# Altium integrated library Linear Technology Power Management PMIC Multifunction.IntLib: 360 symbols (part 28 of 42)
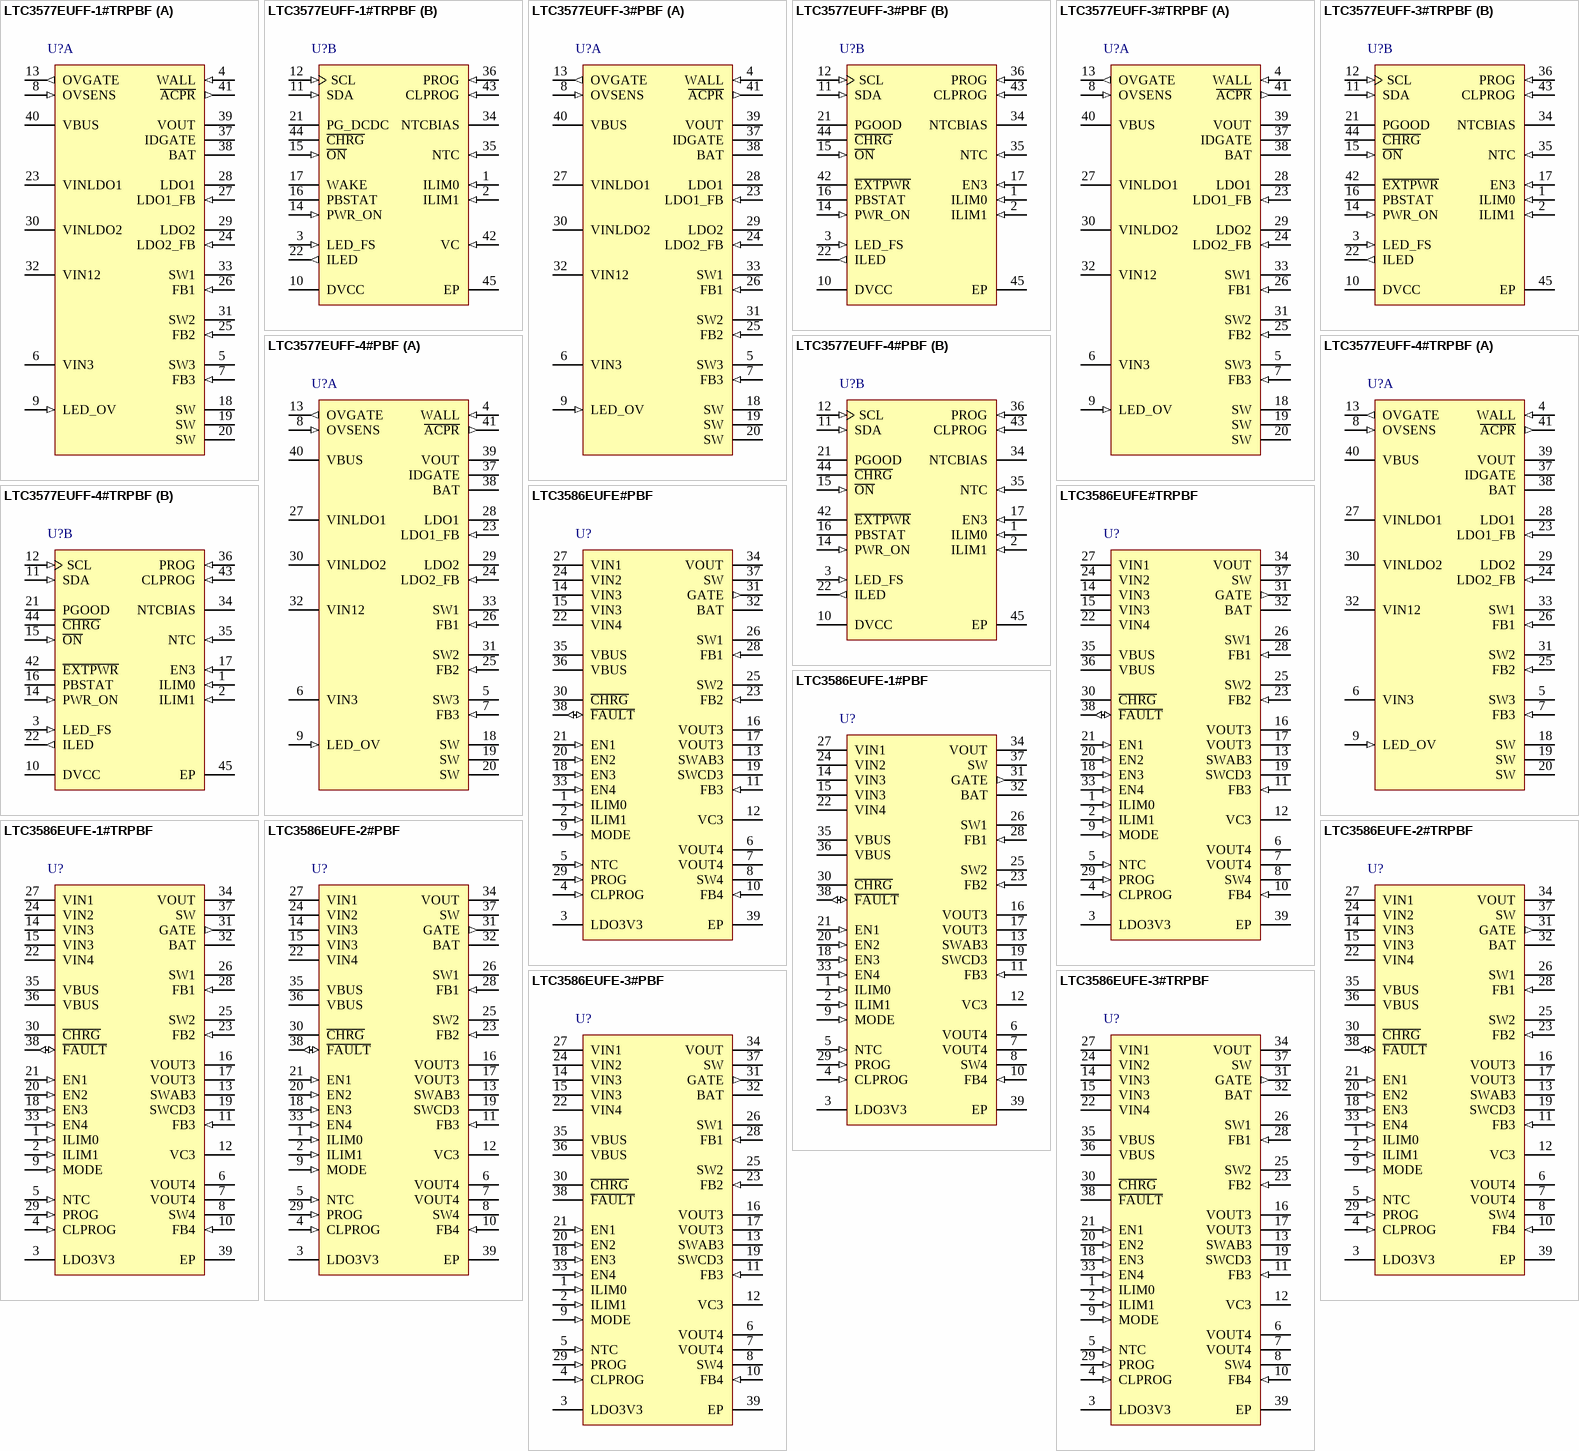
[diagram p45: symbols LTC3577EUFF-1#TRPBF to LTC3586EUFE-3#TRPBF]

## LTC3586EUFE-3#PBF
designator U?
High Efficiency USB Power Manager with Boost, Buck-Boost and Dual Bucks, 4.35 to 5.5 V Vin, 38-pin QFN (UFE-38), -40 to 85 degC, Pb-Free; Manufacturer: Linear Technology; PartNumber: LTC3586EUFE-3#PBF; Number of Cells: 1; Number of Outputs: 4; Vin Max(V): 5.5; Vin Min(V): 4.35; PackageVersion: Rev. B, 03/2012; PackageReference: UFE-38; PackageDescription: 38-Pin Plastic QFN, Body 4 x 6 mm, Pitch 0.4 mm; Supplier 1: Digi-Key; Supplier Part Number 1: LTC3586EUFE-3#PBF-ND; RoHS: TRUE; Mounting Technology: Surface Mount; ComponentLink1Description: Manufacturer URL; ComponentLink1URL: http://www.linear.com/; ComponentLink2Description: Datasheet; ComponentLink2URL: http://cds.linear.com/docs/en/datasheet/358623f.pdf; ComponentLink3Description: Package Specification; ComponentLink3URL: http://cds.linear.com/docs/en/datasheet/358623f.pdf
footprint LT-UFE-38_N (QFN, 38-Leads, Body 6.1x4.1mm, Pitch 0.4mm, Thermal Pad 2.65x4.65mm, IPC Medium Density)
footprint LT-UFE-38_L (QFN, 38-Leads, Body 6.1x4.1mm, Pitch 0.4mm, Thermal Pad 2.65x4.65mm, IPC High Density)
footprint LT-UFE-38_M (QFN, 38-Leads, Body 6.1x4.1mm, Pitch 0.4mm, Thermal Pad 2.65x4.65mm, IPC Low Density)
pins: 1 ILIM0 (in) "Logic Inputs. ILIM0 and ILIM1 control the current limit of the PowerPath switching regulator. See Table 1.", 2 ILIM1 (in) "Logic Inputs. ILIM0 and ILIM1 control the current limit of the PowerPath switching regulator. See Table 1.", 3 LDO3V3 (power) "3.3V LDO Output Pin. This pin provides a regulated always-on 3.3V supply voltage. LDO3V3 gets its power from VOUT. It may be used for light loads such as a watch dog microprocessor or real time clock. A 1uF capacitor is (See Datasheet)", 4 CLPROG (in) "USB Current Limit Program and Monitor Pin. A resistor from CLPROG to ground determines the upper limit of the current drawn from the VBUS pin. A fraction of the VBUS current is sent to the CLPROG pin when the synchronous (See Datasheet)", 5 NTC (in) "Input to the Thermistor Monitoring Circuits. The NTC pin connects to a battery’s thermistor to determine if the battery is too hot or too cold to charge. If the battery’s temperature is out of range, charging is pau(See Datasheet)", 6 VOUT4 (power) "Power Output for the (Boost) Switching Regulator 4. A 10uF MLCC capacitor should be placed as close to the pins as possible.", 7 VOUT4 (power) "Power Output for the (Boost) Switching Regulator 4. A 10uF MLCC capacitor should be placed as close to the pins as possible.", 8 SW4 "Switch Node for the (Boost) Switching Regulator 4. An external inductor connects between this pin and VIN4.", 9 MODE (in) "Digital Input. The MODE pin controls different modes of operation for the switching regulators according to Table 2.", 10 FB4 (in) "Feedback Input for the (Boost) Switching Regulator 4. When the control loop is complete, the voltage on this pin servos to 0.8V.", 11 FB3 (in) "Feedback Input for (Buck-Boost) Switching Regulator 3. When regulator 3’s control loop is complete, this pin servos to 0.8V.", 12 VC3 "Output of the Error Amplifier and Voltage Compensation Node for (Buck-Boost) Switching Regulator 3. External Type I or Type III compensation (to FB3) connects to this pin. See the Applications Information section for (See Datasheet)", 13 SWAB3 "Switch Node for (Buck-Boost) Switching Regulator 3. Connected to Internal Power Switches A and B. An external inductor connects between this node and SWCD3.", 14 VIN3 (power) "Power Input for (Buck-Boost) Switching Regulator 3. These pins will generally be connected to VOUT. A 1uF MLCC capacitor is recommended on these pins.", 15 VIN3 (power) "Power Input for (Buck-Boost) Switching Regulator 3. These pins will generally be connected to VOUT. A 1uF MLCC capacitor is recommended on these pins.", 16 VOUT3 (power) "Output Voltage for (Buck-Boost) Switching Regulator 3.", 17 VOUT3 (power) "Output Voltage for (Buck-Boost) Switching Regulator 3.", 18 EN3 (in) "Digital Input. This input enables the buck-boost switching regulator 3.", 19 SWCD3 "Switch Node for (Buck-Boost) Switching Regulator 3 Connected to Internal Power Switches C and D. An external inductor connects between this node and SWAB3.", 20 EN2 (in) "Digital Input. This input enables the buck switching regulator 2.", 21 EN1 (in) "Digital Input. This input enables the buck switching regulator 1.", 22 VIN4 (power) "Power Input for Switching Regulator 4 (Boost). This pin will generally be connected to VOUT. A 1uF MLCC capacitor is recommended on this pin.", 23 FB2 (in) "Feedback Input for (Buck) Switching Regulator 2. When regulator 2’s control loop is complete, this pin servos to 0.8V.", 24 VIN2 (power) "Power Input for (Buck) Switching Regulator 2. This pin will generally be connected to VOUT. A 1uF MLCC capacitor is recommended on this pin.", 25 SW2 (power) "Power Transmission Pin for (Buck) Switching Regulator 2.", 26 SW1 (power) "Power Transmission Pin for (Buck) Switching Regulator 1.", 27 VIN1 (power) "Power Input for (Buck) Switching Regulator 1. This pin will generally be connected to VOUT. A 1uF MLCC capacitor is recommended on this pin.", 28 FB1 (in) "Feedback Input for (Buck) Switching Regulator 1. When regulator 1’s control loop is complete, this pin servos to 0.8V.", 29 PROG (in) "Charge Current Program and Charge Current Monitor Pin. Connecting a resistor from PROG to ground programs the charge current. If sufficient input power is available in constant-current mode, this pin servos to 1V. The (See Datasheet)", 30 ~{CHRG} (hiz) "Open-Drain Charge Status Output. The C\H\R\G\ pin indicates the status of the battery charger. Four possible states are represented by C\H\R\G\: charging, not charging, unresponsive battery and battery temperature out of (See Datasheet)", 31 GATE (out) "Analog Output. This pin controls the gate of an optional external P-channel MOSFET transistor used to supplement the ideal diode between VOUT and BAT. The external ideal diode operates in parallel with the internal ideal (See Datasheet)", 32 BAT (power) "Single Cell Li-Ion Battery Pin. Depending on available VBUS power, a Li-Ion battery on BAT will either deliver power to VOUT through the ideal diode or be charged from VOUT via the battery charger.", 33 EN4 (in) "Digital Input. This input enables the boost switching regulator 4.", 34 VOUT (power) "Output Voltage of the Switching PowerPath Controller and Input Voltage of the Battery Charger. The majority of the portable product should be powered from VOUT. The LTC3586-2/LTC3586-3 will partition the available power (See Datasheet)", 35 VBUS (power) "Primary Input Power Pin. These pins deliver power to VOUT via the SW pin by drawing controlled current from a DC source such as a USB port or wall adapter.", 36 VBUS (power) "Primary Input Power Pin. These pins deliver power to VOUT via the SW pin by drawing controlled current from a DC source such as a USB port or wall adapter.", 37 SW (power) "Power Transmission Pin for the USB Power Path. The SW pin delivers power from VBUS to VOUT via the buck switching regulator. A 3.3uH inductor should be connected from SW to VOUT.", 38 ~{FAULT} (oc) "Open-Drain Status Output. Used to indicate fault condition in any of the four general purpose voltage regulators", 39 EP (power) "Ground. The exposed pad should be connected to a continuous ground plane on the second layer of the printed circuit board by several vias directly under the LTC3586-2/LTC3586-3."

## LTC3586EUFE-3#TRPBF
designator U?
High Efficiency USB Power Manager with Boost, Buck-Boost and Dual Bucks, 4.35 to 5.5 V Vin, 38-pin QFN (UFE-38), -40 to 85 degC, Pb-Free, Tape and Reel; Manufacturer: Linear Technology; PartNumber: LTC3586EUFE-3#TRPBF; Number of Cells: 1; Number of Outputs: 4; Vin Max(V): 5.5; Vin Min(V): 4.35; PackageVersion: Rev. B, 03/2012; PackageReference: UFE-38; PackageDescription: 38-Pin Plastic QFN, Body 4 x 6 mm, Pitch 0.4 mm; Supplier 1: Digi-Key; Supplier Part Number 1: LTC3586EUFE-3#TRPBF-ND; Packing: Tape and Reel; RoHS: TRUE; Mounting Technology: Surface Mount; ComponentLink1Description: Manufacturer URL; ComponentLink1URL: http://www.linear.com/; ComponentLink2Description: Datasheet; ComponentLink2URL: http://cds.linear.com/docs/en/datasheet/358623f.pdf; ComponentLink3Description: Package Specification; ComponentLink3URL: http://cds.linear.com/docs/en/datasheet/358623f.pdf
footprint LT-UFE-38_N (QFN, 38-Leads, Body 6.1x4.1mm, Pitch 0.4mm, Thermal Pad 2.65x4.65mm, IPC Medium Density)
footprint LT-UFE-38_L (QFN, 38-Leads, Body 6.1x4.1mm, Pitch 0.4mm, Thermal Pad 2.65x4.65mm, IPC High Density)
footprint LT-UFE-38_M (QFN, 38-Leads, Body 6.1x4.1mm, Pitch 0.4mm, Thermal Pad 2.65x4.65mm, IPC Low Density)
pins: 1 ILIM0 (in) "Logic Inputs. ILIM0 and ILIM1 control the current limit of the PowerPath switching regulator. See Table 1.", 2 ILIM1 (in) "Logic Inputs. ILIM0 and ILIM1 control the current limit of the PowerPath switching regulator. See Table 1.", 3 LDO3V3 (power) "3.3V LDO Output Pin. This pin provides a regulated always-on 3.3V supply voltage. LDO3V3 gets its power from VOUT. It may be used for light loads such as a watch dog microprocessor or real time clock. A 1uF capacitor is (See Datasheet)", 4 CLPROG (in) "USB Current Limit Program and Monitor Pin. A resistor from CLPROG to ground determines the upper limit of the current drawn from the VBUS pin. A fraction of the VBUS current is sent to the CLPROG pin when the synchronous (See Datasheet)", 5 NTC (in) "Input to the Thermistor Monitoring Circuits. The NTC pin connects to a battery’s thermistor to determine if the battery is too hot or too cold to charge. If the battery’s temperature is out of range, charging is pau(See Datasheet)", 6 VOUT4 (power) "Power Output for the (Boost) Switching Regulator 4. A 10uF MLCC capacitor should be placed as close to the pins as possible.", 7 VOUT4 (power) "Power Output for the (Boost) Switching Regulator 4. A 10uF MLCC capacitor should be placed as close to the pins as possible.", 8 SW4 "Switch Node for the (Boost) Switching Regulator 4. An external inductor connects between this pin and VIN4.", 9 MODE (in) "Digital Input. The MODE pin controls different modes of operation for the switching regulators according to Table 2.", 10 FB4 (in) "Feedback Input for the (Boost) Switching Regulator 4. When the control loop is complete, the voltage on this pin servos to 0.8V.", 11 FB3 (in) "Feedback Input for (Buck-Boost) Switching Regulator 3. When regulator 3’s control loop is complete, this pin servos to 0.8V.", 12 VC3 "Output of the Error Amplifier and Voltage Compensation Node for (Buck-Boost) Switching Regulator 3. External Type I or Type III compensation (to FB3) connects to this pin. See the Applications Information section for (See Datasheet)", 13 SWAB3 "Switch Node for (Buck-Boost) Switching Regulator 3. Connected to Internal Power Switches A and B. An external inductor connects between this node and SWCD3.", 14 VIN3 (power) "Power Input for (Buck-Boost) Switching Regulator 3. These pins will generally be connected to VOUT. A 1uF MLCC capacitor is recommended on these pins.", 15 VIN3 (power) "Power Input for (Buck-Boost) Switching Regulator 3. These pins will generally be connected to VOUT. A 1uF MLCC capacitor is recommended on these pins.", 16 VOUT3 (power) "Output Voltage for (Buck-Boost) Switching Regulator 3.", 17 VOUT3 (power) "Output Voltage for (Buck-Boost) Switching Regulator 3.", 18 EN3 (in) "Digital Input. This input enables the buck-boost switching regulator 3.", 19 SWCD3 "Switch Node for (Buck-Boost) Switching Regulator 3 Connected to Internal Power Switches C and D. An external inductor connects between this node and SWAB3.", 20 EN2 (in) "Digital Input. This input enables the buck switching regulator 2.", 21 EN1 (in) "Digital Input. This input enables the buck switching regulator 1.", 22 VIN4 (power) "Power Input for Switching Regulator 4 (Boost). This pin will generally be connected to VOUT. A 1uF MLCC capacitor is recommended on this pin.", 23 FB2 (in) "Feedback Input for (Buck) Switching Regulator 2. When regulator 2’s control loop is complete, this pin servos to 0.8V.", 24 VIN2 (power) "Power Input for (Buck) Switching Regulator 2. This pin will generally be connected to VOUT. A 1uF MLCC capacitor is recommended on this pin.", 25 SW2 (power) "Power Transmission Pin for (Buck) Switching Regulator 2.", 26 SW1 (power) "Power Transmission Pin for (Buck) Switching Regulator 1.", 27 VIN1 (power) "Power Input for (Buck) Switching Regulator 1. This pin will generally be connected to VOUT. A 1uF MLCC capacitor is recommended on this pin.", 28 FB1 (in) "Feedback Input for (Buck) Switching Regulator 1. When regulator 1’s control loop is complete, this pin servos to 0.8V.", 29 PROG (in) "Charge Current Program and Charge Current Monitor Pin. Connecting a resistor from PROG to ground programs the charge current. If sufficient input power is available in constant-current mode, this pin servos to 1V. The (See Datasheet)", 30 ~{CHRG} (hiz) "Open-Drain Charge Status Output. The C\H\R\G\ pin indicates the status of the battery charger. Four possible states are represented by C\H\R\G\: charging, not charging, unresponsive battery and battery temperature out of (See Datasheet)", 31 GATE (out) "Analog Output. This pin controls the gate of an optional external P-channel MOSFET transistor used to supplement the ideal diode between VOUT and BAT. The external ideal diode operates in parallel with the internal ideal (See Datasheet)", 32 BAT (power) "Single Cell Li-Ion Battery Pin. Depending on available VBUS power, a Li-Ion battery on BAT will either deliver power to VOUT through the ideal diode or be charged from VOUT via the battery charger.", 33 EN4 (in) "Digital Input. This input enables the boost switching regulator 4.", 34 VOUT (power) "Output Voltage of the Switching PowerPath Controller and Input Voltage of the Battery Charger. The majority of the portable product should be powered from VOUT. The LTC3586-2/LTC3586-3 will partition the available power (See Datasheet)", 35 VBUS (power) "Primary Input Power Pin. These pins deliver power to VOUT via the SW pin by drawing controlled current from a DC source such as a USB port or wall adapter.", 36 VBUS (power) "Primary Input Power Pin. These pins deliver power to VOUT via the SW pin by drawing controlled current from a DC source such as a USB port or wall adapter.", 37 SW (power) "Power Transmission Pin for the USB Power Path. The SW pin delivers power from VBUS to VOUT via the buck switching regulator. A 3.3uH inductor should be connected from SW to VOUT.", 38 ~{FAULT} (oc) "Open-Drain Status Output. Used to indicate fault condition in any of the four general purpose voltage regulators", 39 EP (power) "Ground. The exposed pad should be connected to a continuous ground plane on the second layer of the printed circuit board by several vias directly under the LTC3586-2/LTC3586-3."

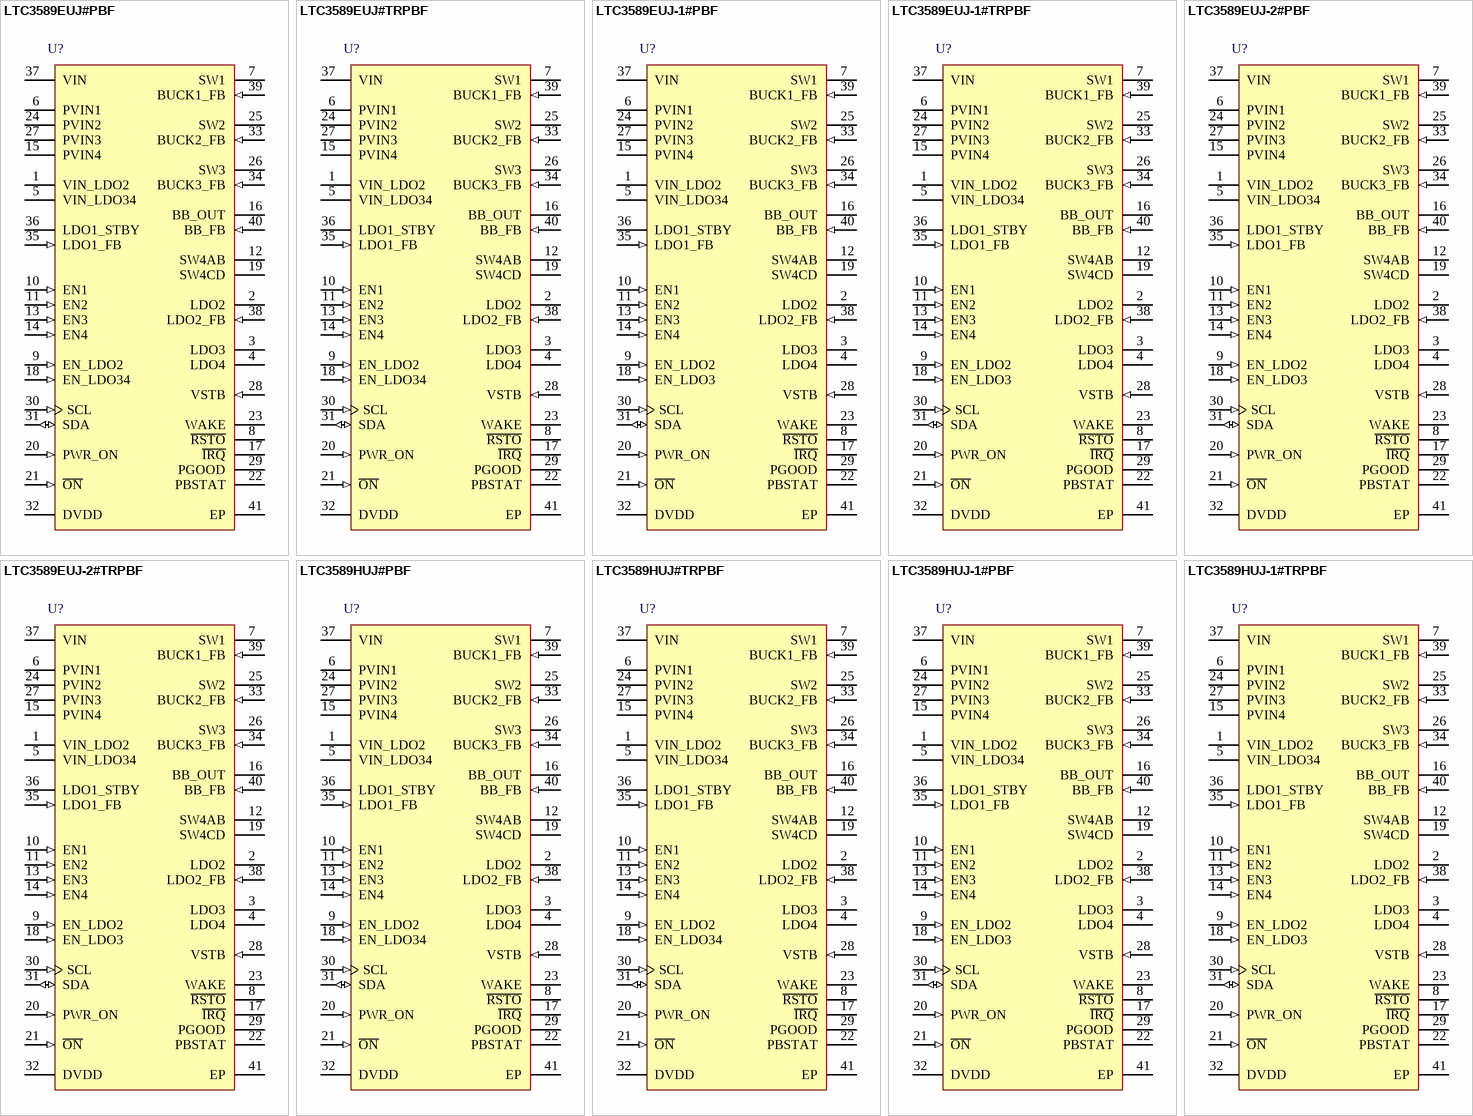
[diagram p12: symbols LTC3589EUJ#PBF to LTC3589HUJ-1#TRPBF]

## LTC3589EUJ#PBF
designator U?
8-Output Regulator with Sequencing and I2C, 2.7 to 5.5 V Vin, 40-pin QFN (UJ-40), -40 to 125 degC, Pb-Free; Manufacturer: Linear Technology; PartNumber: LTC3589EUJ#PBF; Number of Outputs: 8; Vin Max(V): 5.5; Vin Min(V): 2.7; DatasheetVersion: Rev. F; PackageVersion: Rev. Ø, 06/2010; PackageReference: UJ-40; PackageDescription: 40-Pin Plastic QFN, Body 6 x 6 mm, Pitch 0.5 mm; Supplier 1: Digi-Key; Supplier Part Number 1: LTC3589EUJ#PBF-ND; Supplier 2: Farnell; Supplier Part Number 2: 1847618; Supplier 3: Newark; Supplier Part Number 3: 84R4962; RoHS: TRUE; Mounting Technology: Surface Mount; ComponentLink1Description: Manufacturer URL; ComponentLink1URL: http://www.linear.com/; ComponentLink2Description: Datasheet; ComponentLink2URL: http://cds.linear.com/docs/en/datasheet/3589ff.pdf; ComponentLink3Description: Package Specification; ComponentLink3URL: http://cds.linear.com/docs/en/packaging/QFN_40_05-08-1728.pdf
footprint LT-UJ-40_N (QFN, 40-Leads, Body 6.1x6.1mm, Pitch 0.5mm, Thermal Pad 4.42x4.42mm, IPC Medium Density)
footprint LT-UJ-40_L (QFN, 40-Leads, Body 6.1x6.1mm, Pitch 0.5mm, Thermal Pad 4.42x4.42mm, IPC High Density)
footprint LT-UJ-40_M (QFN, 40-Leads, Body 6.1x6.1mm, Pitch 0.5mm, Thermal Pad 4.42x4.42mm, IPC Low Density)
pins: 1 VIN_LDO2 (power) "Power Input for LDO2. This pin should be bypassed to ground with a 1uF or greater ceramic capacitor.", 2 LDO2 (power) "Output Voltage of LDO2. Nominal output voltage is set with a resistor feedback divider that servos to an I2C register controlled DAC reference. This pin must be bypassed to ground with a 1uF or greater ceramic capacitor.", 3 LDO3 (power) "Output Voltage of LDO3. Nominal output voltage is fixed at 1.8V or 2.8V (LTC3589-1/LTC3589-2). This pin must be bypassed to ground with a 1uF or greater ceramic capacitor.", 4 LDO4 (power) "Output Voltage of LDO4. Output voltage is selected via the I2C port. This pin must be bypassed to ground with a 1uF or greater ceramic capacitor.", 5 VIN_LDO34 (power) "Power Input for LDO3 and LDO4. This pin should be bypassed to ground with a 1uF or greater ceramic capacitor.", 6 PVIN1 (power) "Power Input for Step-Down Switching Regulator 1. Tie this pin to VIN supply. This pin should be bypassed to ground with a 4.7uF or greater ceramic capacitor.", 7 SW1 (power) "Switch Pin for Step-Down Switching Regulator 1. Connect one side of step-down switching regulator 1 inductor to this pin.", 8 ~{RSTO} (oc) "Reset Output. Open-drain output pulls low when the always-on regulator LDO1 is below regulation and during a hard reset initiated by a pushbutton input.", 9 EN_LDO2 (in) "Enable LDO2 Logic Input. Active high input to enable LDO2. A weak pull-down forces EN_LDO2 low when left floating.", 10 EN1 (in) "Enable Step-Down Switching Regulator 1. Active high input to enable step-down switching regulator 1. A weak pull-down forces EN1 low when left floating.", 11 EN2 (in) "Enable Step-Down Switching Regulator 2. Active high input to enable step-down switching regulator 2. A weak pull-down forces EN2 low when left floating.", 12 SW4AB "Switch Pin for Buck-Boost Switching Regulator 4. Connected to the buck-boost internal power switches A and B. Connect an inductor between this pin and SW4CD (Pin 19).", 13 EN3 (in) "Enable Step-Down Switching Regulator 3. Active high input to enable step-down switching regulator 3. A weak pull-down forces EN3 low when left floating.", 14 EN4 (in) "Enable Buck-Boost Switching Regulator 4. Active high input to enable buck-boost switching regulator 4. A weak pull-down forces EN4 low when left floating.", 15 PVIN4 (power) "Power Input for Switching Regulator 4. Tie this pin to VIN supply. This pin should be bypassed to ground with a 4.7uF or greater ceramic capacitor.", 16 BB_OUT (power) "Output Voltage of Buck-Boost Switching Regulator 4. This pin must be bypassed to ground with a 22uF or greater ceramic capacitor.", 17 ~{IRQ} (oc) "Interrupt Request Output. Open-drain driver is pulled low for power good, undervoltage, and overtemperature warning and fault conditions. Clear I\R\Q\ by writing to the I2C CLIRQ command register.", 18 EN_LDO34 (in) "LTC3589 Enable LDO3 and LDO4 Logic Input. Active high to enable LDO3 and LDO4. Disable LDO4 via I2C software commands using I2C command registers OVEN or L2DTV2. A weak pull-down forces EN_LDO34 low when left floating.", 19 SW4CD "Switch Pin for Buck-Boost Switching Regulator 4. Connected to the buck-boost internal power switches C and D. Connect an inductor between this node and SW4AB (Pin 12).", 20 PWR_ON (in) "External Power-On. Handshaking pin to acknowledge successful power-on sequence. PWR_ON must be driven high within five seconds of WAKE going high to keep power on. It can be used to activate the WAKE output by driving high. (See Datasheet)", 21 ~{ON} (in) "Pushbutton Input. A weak internal pull-up forces O\N\ high when left floating. A normally open pushbutton is connected from O\N\ to ground to force a low state on this pin.", 22 PBSTAT (oc) "Pushbutton Status. Open-drain output to be used for processor interrupts. PBSTAT mirrors the status of O\N\ pushbutton pin. PBSTAT is delayed 50ms from O\N\ pin for debounce.", 23 WAKE (oc) "System Wake Up. Open-drain driver output releases high when signaled by pushbutton activation or PWR_ON input. It may be used to initiate a pin-strapped power-up sequence by connecting to a regulator enable pin.", 24 PVIN2 (power) "Power Input for Step-Down Switching Regulator 2. Tie this pin to VIN supply. This pin should be bypassed to ground with a 4.7uF or greater ceramic capacitor.", 25 SW2 (power) "Switch Pin for Step-Down Switching Regulator 2. Connect one side of step-down switching regulator 2 inductor to this pin.", 26 SW3 (power) "Switch Pin for Step-Down Switching Regulator 3. Connect one side of step-down switching regulator 3 inductor to this pin.", 27 PVIN3 (power) "Power Input for Step-Down Switching Regulator 3. Tie this pin to the VIN supply. This pin should be bypassed to ground with a 4.7uF or greater ceramic capacitor.", 28 VSTB (in) "Voltage Standby. When VSTB is low, DAC reference registers are selected by bit values in command register VCCR. When VSTB is high, the DAC registers are forced xxDVT2 registers. Tie VSTB to ground if unused.", 29 PGOOD (oc) "Power Good Output. Open-drain output pulls down when any regulator falls below power good threshold and during regulator dynamic voltage slew unless disabled in I2C register. Pulls down when all regulators are disabled.", 30 SCL (in) "Clock Input Pin for the I2C Serial Port. The I2C logic levels are scaled with respect to DVDD.", 31 SDA (io) "Data Input Pin for the I2C Serial Port. The I2C logic levels are scaled with respect to DVDD.", 32 DVDD (power) "Supply Voltage for I2C Serial Port. This pin sets the logic reference level of SCL and SDA I2C pins. DVDD resets I2C registers to power on state when driven to <1V. SCL and SDA logic levels are scaled to DVDD. Connect a 0.(See Datasheet)", 33 BUCK2_FB (in) "Feedback Input for Step-Down Switching Regulator 2. Set full-scale output voltage using resistor divider connected from the output of step-down switching regulator 2 to this pin to ground.", 34 BUCK3_FB (in) "Feedback Input for Step-Down Switching Regulator 3. Set full-scale output voltage using resistor divider connected from the output of step-down switching regulator 3 to this pin to ground.", 35 LDO1_FB (in) "Feedback Input for LDO1. Set output voltage using a resistor divider connected from LDO1_STDBY to this pin to ground.", 36 LDO1_STBY (power) "Always-On LDO1 Output. This pin provides an always-on supply voltage useful for light loads such as a watchdog microprocessor or a real-time clock. Connect a 1uF capacitor from LDO1_STBY to ground.", 37 VIN (power) "Supply Voltage Input. This pin should be bypassed to ground with a 1uF or greater ceramic capacitor.", 38 LDO2_FB (in) "Feedback Input for LDO2. Set full-scale output voltage using a resistor divider connected from LDO2_OUT to this pin to ground.", 39 BUCK1_FB (in) "Feedback Input for Step-Down Switching Regulator 1. Set full-scale output voltage using resistor divider connected from the output of step-down switching regulator 1 to this pin to ground.", 40 BB_FB (in) "Feedback Input for Buck-Boost Switching Regulator 4. Set the output voltage using resistor divider connected from BB_OUT to this pin to ground.", 41 EP (power) "Ground. The Exposed Pad must be connected to a continuous ground plane on the second layer of the printed circuit board by several interconnect vias directly under the LTC3589 for maximum heat transfer."

## LTC3589EUJ#TRPBF
designator U?
8-Output Regulator with Sequencing and I2C, 2.7 to 5.5 V Vin, 40-pin QFN (UJ-40), -40 to 125 degC, Pb-Free, Tape and Reel; Manufacturer: Linear Technology; PartNumber: LTC3589EUJ#TRPBF; Number of Outputs: 8; Vin Max(V): 5.5; Vin Min(V): 2.7; DatasheetVersion: Rev. F; PackageVersion: Rev. Ø, 06/2010; PackageReference: UJ-40; PackageDescription: 40-Pin Plastic QFN, Body 6 x 6 mm, Pitch 0.5 mm; Supplier 1: Digi-Key; Supplier Part Number 1: LTC3589EUJ#TRPBF-ND; Supplier 2: Newark; Supplier Part Number 2: 84R4963; Packing: Tape and Reel; RoHS: TRUE; Mounting Technology: Surface Mount; ComponentLink1Description: Manufacturer URL; ComponentLink1URL: http://www.linear.com/; ComponentLink2Description: Datasheet; ComponentLink2URL: http://cds.linear.com/docs/en/datasheet/3589ff.pdf; ComponentLink3Description: Package Specification; ComponentLink3URL: http://cds.linear.com/docs/en/packaging/QFN_40_05-08-1728.pdf
footprint LT-UJ-40_N (QFN, 40-Leads, Body 6.1x6.1mm, Pitch 0.5mm, Thermal Pad 4.42x4.42mm, IPC Medium Density)
footprint LT-UJ-40_L (QFN, 40-Leads, Body 6.1x6.1mm, Pitch 0.5mm, Thermal Pad 4.42x4.42mm, IPC High Density)
footprint LT-UJ-40_M (QFN, 40-Leads, Body 6.1x6.1mm, Pitch 0.5mm, Thermal Pad 4.42x4.42mm, IPC Low Density)
pins: 1 VIN_LDO2 (power) "Power Input for LDO2. This pin should be bypassed to ground with a 1uF or greater ceramic capacitor.", 2 LDO2 (power) "Output Voltage of LDO2. Nominal output voltage is set with a resistor feedback divider that servos to an I2C register controlled DAC reference. This pin must be bypassed to ground with a 1uF or greater ceramic capacitor.", 3 LDO3 (power) "Output Voltage of LDO3. Nominal output voltage is fixed at 1.8V or 2.8V (LTC3589-1/LTC3589-2). This pin must be bypassed to ground with a 1uF or greater ceramic capacitor.", 4 LDO4 (power) "Output Voltage of LDO4. Output voltage is selected via the I2C port. This pin must be bypassed to ground with a 1uF or greater ceramic capacitor.", 5 VIN_LDO34 (power) "Power Input for LDO3 and LDO4. This pin should be bypassed to ground with a 1uF or greater ceramic capacitor.", 6 PVIN1 (power) "Power Input for Step-Down Switching Regulator 1. Tie this pin to VIN supply. This pin should be bypassed to ground with a 4.7uF or greater ceramic capacitor.", 7 SW1 (power) "Switch Pin for Step-Down Switching Regulator 1. Connect one side of step-down switching regulator 1 inductor to this pin.", 8 ~{RSTO} (oc) "Reset Output. Open-drain output pulls low when the always-on regulator LDO1 is below regulation and during a hard reset initiated by a pushbutton input.", 9 EN_LDO2 (in) "Enable LDO2 Logic Input. Active high input to enable LDO2. A weak pull-down forces EN_LDO2 low when left floating.", 10 EN1 (in) "Enable Step-Down Switching Regulator 1. Active high input to enable step-down switching regulator 1. A weak pull-down forces EN1 low when left floating.", 11 EN2 (in) "Enable Step-Down Switching Regulator 2. Active high input to enable step-down switching regulator 2. A weak pull-down forces EN2 low when left floating.", 12 SW4AB "Switch Pin for Buck-Boost Switching Regulator 4. Connected to the buck-boost internal power switches A and B. Connect an inductor between this pin and SW4CD (Pin 19).", 13 EN3 (in) "Enable Step-Down Switching Regulator 3. Active high input to enable step-down switching regulator 3. A weak pull-down forces EN3 low when left floating.", 14 EN4 (in) "Enable Buck-Boost Switching Regulator 4. Active high input to enable buck-boost switching regulator 4. A weak pull-down forces EN4 low when left floating.", 15 PVIN4 (power) "Power Input for Switching Regulator 4. Tie this pin to VIN supply. This pin should be bypassed to ground with a 4.7uF or greater ceramic capacitor.", 16 BB_OUT (power) "Output Voltage of Buck-Boost Switching Regulator 4. This pin must be bypassed to ground with a 22uF or greater ceramic capacitor.", 17 ~{IRQ} (oc) "Interrupt Request Output. Open-drain driver is pulled low for power good, undervoltage, and overtemperature warning and fault conditions. Clear I\R\Q\ by writing to the I2C CLIRQ command register.", 18 EN_LDO34 (in) "LTC3589 Enable LDO3 and LDO4 Logic Input. Active high to enable LDO3 and LDO4. Disable LDO4 via I2C software commands using I2C command registers OVEN or L2DTV2. A weak pull-down forces EN_LDO34 low when left floating.", 19 SW4CD "Switch Pin for Buck-Boost Switching Regulator 4. Connected to the buck-boost internal power switches C and D. Connect an inductor between this node and SW4AB (Pin 12).", 20 PWR_ON (in) "External Power-On. Handshaking pin to acknowledge successful power-on sequence. PWR_ON must be driven high within five seconds of WAKE going high to keep power on. It can be used to activate the WAKE output by driving high. (See Datasheet)", 21 ~{ON} (in) "Pushbutton Input. A weak internal pull-up forces O\N\ high when left floating. A normally open pushbutton is connected from O\N\ to ground to force a low state on this pin.", 22 PBSTAT (oc) "Pushbutton Status. Open-drain output to be used for processor interrupts. PBSTAT mirrors the status of O\N\ pushbutton pin. PBSTAT is delayed 50ms from O\N\ pin for debounce.", 23 WAKE (oc) "System Wake Up. Open-drain driver output releases high when signaled by pushbutton activation or PWR_ON input. It may be used to initiate a pin-strapped power-up sequence by connecting to a regulator enable pin.", 24 PVIN2 (power) "Power Input for Step-Down Switching Regulator 2. Tie this pin to VIN supply. This pin should be bypassed to ground with a 4.7uF or greater ceramic capacitor.", 25 SW2 (power) "Switch Pin for Step-Down Switching Regulator 2. Connect one side of step-down switching regulator 2 inductor to this pin.", 26 SW3 (power) "Switch Pin for Step-Down Switching Regulator 3. Connect one side of step-down switching regulator 3 inductor to this pin.", 27 PVIN3 (power) "Power Input for Step-Down Switching Regulator 3. Tie this pin to the VIN supply. This pin should be bypassed to ground with a 4.7uF or greater ceramic capacitor.", 28 VSTB (in) "Voltage Standby. When VSTB is low, DAC reference registers are selected by bit values in command register VCCR. When VSTB is high, the DAC registers are forced xxDVT2 registers. Tie VSTB to ground if unused.", 29 PGOOD (oc) "Power Good Output. Open-drain output pulls down when any regulator falls below power good threshold and during regulator dynamic voltage slew unless disabled in I2C register. Pulls down when all regulators are disabled.", 30 SCL (in) "Clock Input Pin for the I2C Serial Port. The I2C logic levels are scaled with respect to DVDD.", 31 SDA (io) "Data Input Pin for the I2C Serial Port. The I2C logic levels are scaled with respect to DVDD.", 32 DVDD (power) "Supply Voltage for I2C Serial Port. This pin sets the logic reference level of SCL and SDA I2C pins. DVDD resets I2C registers to power on state when driven to <1V. SCL and SDA logic levels are scaled to DVDD. Connect a 0.(See Datasheet)", 33 BUCK2_FB (in) "Feedback Input for Step-Down Switching Regulator 2. Set full-scale output voltage using resistor divider connected from the output of step-down switching regulator 2 to this pin to ground.", 34 BUCK3_FB (in) "Feedback Input for Step-Down Switching Regulator 3. Set full-scale output voltage using resistor divider connected from the output of step-down switching regulator 3 to this pin to ground.", 35 LDO1_FB (in) "Feedback Input for LDO1. Set output voltage using a resistor divider connected from LDO1_STDBY to this pin to ground.", 36 LDO1_STBY (power) "Always-On LDO1 Output. This pin provides an always-on supply voltage useful for light loads such as a watchdog microprocessor or a real-time clock. Connect a 1uF capacitor from LDO1_STBY to ground.", 37 VIN (power) "Supply Voltage Input. This pin should be bypassed to ground with a 1uF or greater ceramic capacitor.", 38 LDO2_FB (in) "Feedback Input for LDO2. Set full-scale output voltage using a resistor divider connected from LDO2_OUT to this pin to ground.", 39 BUCK1_FB (in) "Feedback Input for Step-Down Switching Regulator 1. Set full-scale output voltage using resistor divider connected from the output of step-down switching regulator 1 to this pin to ground.", 40 BB_FB (in) "Feedback Input for Buck-Boost Switching Regulator 4. Set the output voltage using resistor divider connected from BB_OUT to this pin to ground.", 41 EP (power) "Ground. The Exposed Pad must be connected to a continuous ground plane on the second layer of the printed circuit board by several interconnect vias directly under the LTC3589 for maximum heat transfer."

## LTC3589EUJ-1#PBF
designator U?
8-Output Regulator with Sequencing and I2C, 2.7 to 5.5 V Vin, 40-pin QFN (UJ-40), -40 to 125 degC, Pb-Free; Manufacturer: Linear Technology; PartNumber: LTC3589EUJ-1#PBF; Number of Outputs: 8; Vin Max(V): 5.5; Vin Min(V): 2.7; DatasheetVersion: Rev. F; PackageVersion: Rev. Ø, 06/2010; PackageReference: UJ-40; PackageDescription: 40-Pin Plastic QFN, Body 6 x 6 mm, Pitch 0.5 mm; Supplier 1: Digi-Key; Supplier Part Number 1: LTC3589EUJ-1#PBF-ND; Supplier 2: Newark; Supplier Part Number 2: 59T5595; RoHS: TRUE; Mounting Technology: Surface Mount; ComponentLink1Description: Manufacturer URL; ComponentLink1URL: http://www.linear.com/; ComponentLink2Description: Datasheet; ComponentLink2URL: http://cds.linear.com/docs/en/datasheet/3589ff.pdf; ComponentLink3Description: Package Specification; ComponentLink3URL: http://cds.linear.com/docs/en/packaging/QFN_40_05-08-1728.pdf
footprint LT-UJ-40_N (QFN, 40-Leads, Body 6.1x6.1mm, Pitch 0.5mm, Thermal Pad 4.42x4.42mm, IPC Medium Density)
footprint LT-UJ-40_L (QFN, 40-Leads, Body 6.1x6.1mm, Pitch 0.5mm, Thermal Pad 4.42x4.42mm, IPC High Density)
footprint LT-UJ-40_M (QFN, 40-Leads, Body 6.1x6.1mm, Pitch 0.5mm, Thermal Pad 4.42x4.42mm, IPC Low Density)
pins: 1 VIN_LDO2 (power) "Power Input for LDO2. This pin should be bypassed to ground with a 1uF or greater ceramic capacitor", 2 LDO2 (power) "Output Voltage of LDO2. Nominal output voltage is set with a resistor feedback divider that servos to an I2C register controlled DAC reference. This pin must be bypassed to ground with a 1uF or greater ceramic capacitor", 3 LDO3 (power) "Output Voltage of LDO3. Nominal output voltage is fixed at 1.8V or 2.8V (LTC3589-1/LTC3589-2). This pin must be bypassed to ground with a 1uF or greater ceramic capacitor.", 4 LDO4 (power) "Output Voltage of LDO4. Output voltage is selected via the I2C port. This pin must be bypassed to ground with a 1uF or greater ceramic capacitor.", 5 VIN_LDO34 (power) "Power Input for LDO3 and LDO4. This pin should be bypassed to ground with a 1uF or greater ceramic capacitor.", 6 PVIN1 (power) "Power Input for Step-Down Switching Regulator 1. Tie this pin to VIN supply. This pin should be bypassed to ground with a 4.7uF or greater ceramic capacitor.", 7 SW1 (power) "Switch Pin for Step-Down Switching Regulator 1. Connect one side of step-down switching regulator 1 inductor to this pin.", 8 ~{RSTO} (oc) "Reset Output. Open-drain output pulls low when the always-on regulator LDO1 is below regulation and during a hard reset initiated by a pushbutton input.", 9 EN_LDO2 (in) "Enable LDO2 Logic Input. Active high input to enable LDO2. A weak pull-down forces EN_LDO2 low when left floating.", 10 EN1 (in) "Enable Step-Down Switching Regulator 1. Active high input to enable step-down switching regulator 1. A weak pull-down forces EN1 low when left floating.", 11 EN2 (in) "Enable Step-Down Switching Regulator 2. Active high input to enable step-down switching regulator 2. A weak pull-down forces EN2 low when left floating.", 12 SW4AB "Switch Pin for Buck-Boost Switching Regulator 4. Connected to the buck-boost internal power switches A and B. Connect an inductor between this pin and SW4CD (Pin 19).", 13 EN3 (in) "Enable Step-Down Switching Regulator 3. Active high input to enable step-down switching regulator 3. A weak pull-down forces EN3 low when left floating.", 14 EN4 (in) "Enable Buck-Boost Switching Regulator 4. Active high input to enable buck-boost switching regulator 4. A weak pull-down forces EN4 low when left floating.", 15 PVIN4 (power) "Power Input for Switching Regulator 4. Tie this pin to VIN supply. This pin should be bypassed to ground with a 4.7uF or greater ceramic capacitor.", 16 BB_OUT (power) "Output Voltage of Buck-Boost Switching Regulator 4. This pin must be bypassed to ground with a 22uF or greater ceramic capacitor.", 17 ~{IRQ} (oc) "Interrupt Request Output. Open-drain driver is pulled low for power good, undervoltage, and overtemperature warning and fault conditions. Clear I\R\Q\ by writing to the I2C CLIRQ command register", 18 EN_LDO3 (in) "LTC3589-1 Enable LDO3 Logic Input. Active high to enable LDO3. A weak pull-down forces EN_LDO3 low when left floating.", 19 SW4CD "Switch Pin for Buck-Boost Switching Regulator 4. Connected to the buck-boost internal power switches C and D. Connect an inductor between this node and SW4AB (Pin 12).", 20 PWR_ON (in) "External Power-On. Handshaking pin to acknowledge successful power-on sequence. PWR_ON must be driven high within five seconds of WAKE going high to keep power on. It can be used to activate the WAKE output by driving high. (See Datasheet)", 21 ~{ON} (in) "Pushbutton Input. A weak internal pull-up forces O\N\ high when left floating. A normally open pushbutton is connected from O\N\ to ground to force a low state on this pin.", 22 PBSTAT (oc) "Pushbutton Status. Open-drain output to be used for processor interrupts. PBSTAT mirrors the status of O\N\ pushbutton pin. PBSTAT is delayed 50ms from O\N\ pin for debounce.", 23 WAKE (oc) "System Wake Up. Open-drain driver output releases high when signaled by pushbutton activation or PWR_ON input. It may be used to initiate a pin-strapped power-up sequence by connecting to a regulator enable pin.", 24 PVIN2 (power) "Power Input for Step-Down Switching Regulator 2. Tie this pin to VIN supply. This pin should be bypassed to ground with a 4.7uF or greater ceramic capacitor.", 25 SW2 (power) "Switch Pin for Step-Down Switching Regulator 2. Connect one side of step-down switching regulator 2 inductor to this pin.", 26 SW3 (power) "Switch Pin for Step-Down Switching Regulator 3. Connect one side of step-down switching regulator 3 inductor to this pin.", 27 PVIN3 (power) "Power Input for Step-Down Switching Regulator 3. Tie this pin to the VIN supply. This pin should be bypassed to ground with a 4.7uF or greater ceramic capacitor.", 28 VSTB (in) "Voltage Standby. When VSTB is low, DAC reference registers are selected by bit values in command register VCCR. When VSTB is high, the DAC registers are forced xxDVT2 registers. Tie VSTB to ground if unused.", 29 PGOOD (oc) "Power Good Output. Open-drain output pulls down when any regulator falls below power good threshold and during regulator dynamic voltage slew unless disabled in I2C register. Pulls down when all regulators are disabled.", 30 SCL (in) "Clock Input Pin for the I2C Serial Port. The I2C logic levels are scaled with respect to DVDD.", 31 SDA (io) "Data Input Pin for the I2C Serial Port. The I2C logic levels are scaled with respect to DVDD.", 32 DVDD (power) "Supply Voltage for I2C Serial Port. This pin sets the logic reference level of SCL and SDA I2C pins. DVDD resets I2C registers to power on state when driven to <1V. SCL and SDA logic levels are scaled to DVDD. Connect a 0.(See Datasheet)", 33 BUCK2_FB (in) "Feedback Input for Step-Down Switching Regulator 2. Set full-scale output voltage using resistor divider connected from the output of step-down switching regulator 2 to this pin to ground.", 34 BUCK3_FB (in) "Feedback Input for Step-Down Switching Regulator 3. Set full-scale output voltage using resistor divider connected from the output of step-down switching regulator 3 to this pin to ground.", 35 LDO1_FB (in) "Feedback Input for LDO1. Set output voltage using a resistor divider connected from LDO1_STDBY to this pin to ground.", 36 LDO1_STBY (power) "Always-On LDO1 Output. This pin provides an always-on supply voltage useful for light loads such as a watchdog microprocessor or a real-time clock. Connect a 1uF capacitor from LDO1_STBY to ground.", 37 VIN (power) "Supply Voltage Input. This pin should be bypassed to ground with a 1uF or greater ceramic capacitor.", 38 LDO2_FB (in) "Feedback Input for LDO2. Set full-scale output voltage using a resistor divider connected from LDO2_OUT to this pin to ground.", 39 BUCK1_FB (in) "Feedback Input for Step-Down", 40 BB_FB (in) "Feedback Input for Buck-Boost Switching Regulator 4. Set the output voltage using resistor divider connected from BB_OUT to this pin to ground.", 41 EP (power) "Ground. The Exposed Pad must be connected to a continuous ground plane on the second layer of the printed circuit board by several interconnect vias directly under the LTC3589 for maximum heat transfer."

## LTC3589EUJ-1#TRPBF
designator U?
8-Output Regulator with Sequencing and I2C, 2.7 to 5.5 V Vin, 40-pin QFN (UJ-40), -40 to 125 degC, Pb-Free, Tape and Reel; Manufacturer: Linear Technology; PartNumber: LTC3589EUJ-1#TRPBF; Number of Outputs: 8; Vin Max(V): 5.5; Vin Min(V): 2.7; DatasheetVersion: Rev. F; PackageVersion: Rev. Ø, 06/2010; PackageReference: UJ-40; PackageDescription: 40-Pin Plastic QFN, Body 6 x 6 mm, Pitch 0.5 mm; Supplier 1: Digi-Key; Supplier Part Number 1: LTC3589EUJ-1#TRPBF-ND; Supplier 2: Newark; Supplier Part Number 2: 59T5596; Packing: Tape and Reel; RoHS: TRUE; Mounting Technology: Surface Mount; ComponentLink1Description: Manufacturer URL; ComponentLink1URL: http://www.linear.com/; ComponentLink2Description: Datasheet; ComponentLink2URL: http://cds.linear.com/docs/en/datasheet/3589ff.pdf; ComponentLink3Description: Package Specification; ComponentLink3URL: http://cds.linear.com/docs/en/packaging/QFN_40_05-08-1728.pdf
footprint LT-UJ-40_N (QFN, 40-Leads, Body 6.1x6.1mm, Pitch 0.5mm, Thermal Pad 4.42x4.42mm, IPC Medium Density)
footprint LT-UJ-40_L (QFN, 40-Leads, Body 6.1x6.1mm, Pitch 0.5mm, Thermal Pad 4.42x4.42mm, IPC High Density)
footprint LT-UJ-40_M (QFN, 40-Leads, Body 6.1x6.1mm, Pitch 0.5mm, Thermal Pad 4.42x4.42mm, IPC Low Density)
pins: 1 VIN_LDO2 (power) "Power Input for LDO2. This pin should be bypassed to ground with a 1uF or greater ceramic capacitor", 2 LDO2 (power) "Output Voltage of LDO2. Nominal output voltage is set with a resistor feedback divider that servos to an I2C register controlled DAC reference. This pin must be bypassed to ground with a 1uF or greater ceramic capacitor", 3 LDO3 (power) "Output Voltage of LDO3. Nominal output voltage is fixed at 1.8V or 2.8V (LTC3589-1/LTC3589-2). This pin must be bypassed to ground with a 1uF or greater ceramic capacitor.", 4 LDO4 (power) "Output Voltage of LDO4. Output voltage is selected via the I2C port. This pin must be bypassed to ground with a 1uF or greater ceramic capacitor.", 5 VIN_LDO34 (power) "Power Input for LDO3 and LDO4. This pin should be bypassed to ground with a 1uF or greater ceramic capacitor.", 6 PVIN1 (power) "Power Input for Step-Down Switching Regulator 1. Tie this pin to VIN supply. This pin should be bypassed to ground with a 4.7uF or greater ceramic capacitor.", 7 SW1 (power) "Switch Pin for Step-Down Switching Regulator 1. Connect one side of step-down switching regulator 1 inductor to this pin.", 8 ~{RSTO} (oc) "Reset Output. Open-drain output pulls low when the always-on regulator LDO1 is below regulation and during a hard reset initiated by a pushbutton input.", 9 EN_LDO2 (in) "Enable LDO2 Logic Input. Active high input to enable LDO2. A weak pull-down forces EN_LDO2 low when left floating.", 10 EN1 (in) "Enable Step-Down Switching Regulator 1. Active high input to enable step-down switching regulator 1. A weak pull-down forces EN1 low when left floating.", 11 EN2 (in) "Enable Step-Down Switching Regulator 2. Active high input to enable step-down switching regulator 2. A weak pull-down forces EN2 low when left floating.", 12 SW4AB "Switch Pin for Buck-Boost Switching Regulator 4. Connected to the buck-boost internal power switches A and B. Connect an inductor between this pin and SW4CD (Pin 19).", 13 EN3 (in) "Enable Step-Down Switching Regulator 3. Active high input to enable step-down switching regulator 3. A weak pull-down forces EN3 low when left floating.", 14 EN4 (in) "Enable Buck-Boost Switching Regulator 4. Active high input to enable buck-boost switching regulator 4. A weak pull-down forces EN4 low when left floating.", 15 PVIN4 (power) "Power Input for Switching Regulator 4. Tie this pin to VIN supply. This pin should be bypassed to ground with a 4.7uF or greater ceramic capacitor.", 16 BB_OUT (power) "Output Voltage of Buck-Boost Switching Regulator 4. This pin must be bypassed to ground with a 22uF or greater ceramic capacitor.", 17 ~{IRQ} (oc) "Interrupt Request Output. Open-drain driver is pulled low for power good, undervoltage, and overtemperature warning and fault conditions. Clear I\R\Q\ by writing to the I2C CLIRQ command register", 18 EN_LDO3 (in) "LTC3589-1 Enable LDO3 Logic Input. Active high to enable LDO3. A weak pull-down forces EN_LDO3 low when left floating.", 19 SW4CD "Switch Pin for Buck-Boost Switching Regulator 4. Connected to the buck-boost internal power switches C and D. Connect an inductor between this node and SW4AB (Pin 12).", 20 PWR_ON (in) "External Power-On. Handshaking pin to acknowledge successful power-on sequence. PWR_ON must be driven high within five seconds of WAKE going high to keep power on. It can be used to activate the WAKE output by driving high. (See Datasheet)", 21 ~{ON} (in) "Pushbutton Input. A weak internal pull-up forces O\N\ high when left floating. A normally open pushbutton is connected from O\N\ to ground to force a low state on this pin.", 22 PBSTAT (oc) "Pushbutton Status. Open-drain output to be used for processor interrupts. PBSTAT mirrors the status of O\N\ pushbutton pin. PBSTAT is delayed 50ms from O\N\ pin for debounce.", 23 WAKE (oc) "System Wake Up. Open-drain driver output releases high when signaled by pushbutton activation or PWR_ON input. It may be used to initiate a pin-strapped power-up sequence by connecting to a regulator enable pin.", 24 PVIN2 (power) "Power Input for Step-Down Switching Regulator 2. Tie this pin to VIN supply. This pin should be bypassed to ground with a 4.7uF or greater ceramic capacitor.", 25 SW2 (power) "Switch Pin for Step-Down Switching Regulator 2. Connect one side of step-down switching regulator 2 inductor to this pin.", 26 SW3 (power) "Switch Pin for Step-Down Switching Regulator 3. Connect one side of step-down switching regulator 3 inductor to this pin.", 27 PVIN3 (power) "Power Input for Step-Down Switching Regulator 3. Tie this pin to the VIN supply. This pin should be bypassed to ground with a 4.7uF or greater ceramic capacitor.", 28 VSTB (in) "Voltage Standby. When VSTB is low, DAC reference registers are selected by bit values in command register VCCR. When VSTB is high, the DAC registers are forced xxDVT2 registers. Tie VSTB to ground if unused.", 29 PGOOD (oc) "Power Good Output. Open-drain output pulls down when any regulator falls below power good threshold and during regulator dynamic voltage slew unless disabled in I2C register. Pulls down when all regulators are disabled.", 30 SCL (in) "Clock Input Pin for the I2C Serial Port. The I2C logic levels are scaled with respect to DVDD.", 31 SDA (io) "Data Input Pin for the I2C Serial Port. The I2C logic levels are scaled with respect to DVDD.", 32 DVDD (power) "Supply Voltage for I2C Serial Port. This pin sets the logic reference level of SCL and SDA I2C pins. DVDD resets I2C registers to power on state when driven to <1V. SCL and SDA logic levels are scaled to DVDD. Connect a 0.(See Datasheet)", 33 BUCK2_FB (in) "Feedback Input for Step-Down Switching Regulator 2. Set full-scale output voltage using resistor divider connected from the output of step-down switching regulator 2 to this pin to ground.", 34 BUCK3_FB (in) "Feedback Input for Step-Down Switching Regulator 3. Set full-scale output voltage using resistor divider connected from the output of step-down switching regulator 3 to this pin to ground.", 35 LDO1_FB (in) "Feedback Input for LDO1. Set output voltage using a resistor divider connected from LDO1_STDBY to this pin to ground.", 36 LDO1_STBY (power) "Always-On LDO1 Output. This pin provides an always-on supply voltage useful for light loads such as a watchdog microprocessor or a real-time clock. Connect a 1uF capacitor from LDO1_STBY to ground.", 37 VIN (power) "Supply Voltage Input. This pin should be bypassed to ground with a 1uF or greater ceramic capacitor.", 38 LDO2_FB (in) "Feedback Input for LDO2. Set full-scale output voltage using a resistor divider connected from LDO2_OUT to this pin to ground.", 39 BUCK1_FB (in) "Feedback Input for Step-Down", 40 BB_FB (in) "Feedback Input for Buck-Boost Switching Regulator 4. Set the output voltage using resistor divider connected from BB_OUT to this pin to ground.", 41 EP (power) "Ground. The Exposed Pad must be connected to a continuous ground plane on the second layer of the printed circuit board by several interconnect vias directly under the LTC3589 for maximum heat transfer."